# EAGLE library part IT8951 (library IT8951E-64DX)
Controlador de alto rendimiento y bajo costo para EPDs (Electronic Paper Displays) con soporte para VCOM AC/DC. Integra funciones como auto-display al arranque, alpha blending y picture-in-picture para reducir la carga del host. Compatible con resoluciones flexibles hasta 2048×2048 y equipado con 32/64 Mb de SDRAM interna. Interfaces disponibles: SPI, I²C, USB, Intel 80 y Motorola 68. Ideal para aplicaciones embebidas con pantallas e-paper monocromáticas o en escala de grises
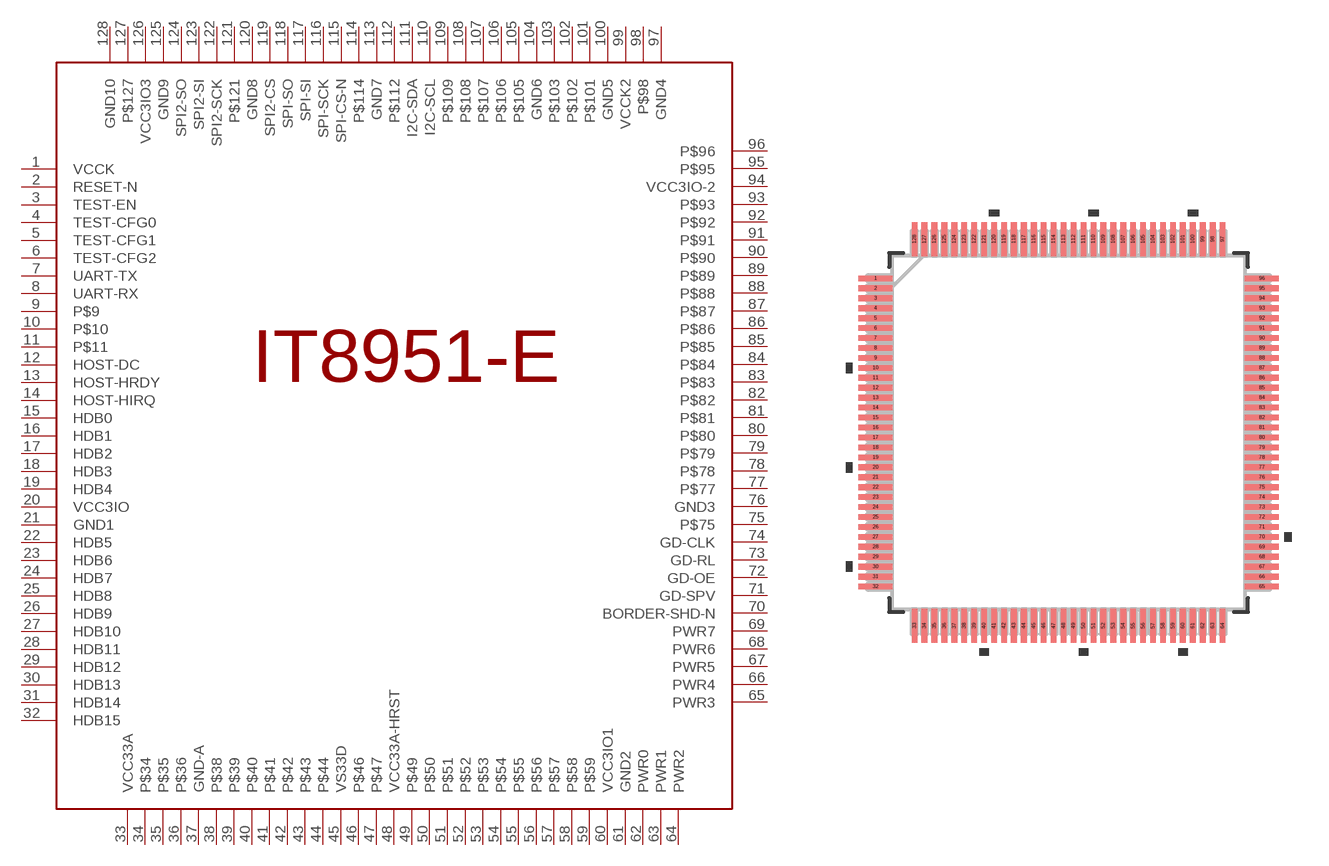
[diagram p0: symbol with the pads of LQFP128_STM; footprint LQFP128_STM]

Designator prefix -

## IT8951  [LQFP128_STM]
1  VCCK
2  RESET-N
3  TEST-EN
4  TEST-CFG0
5  TEST-CFG1
6  TEST-CFG2
7  UART-TX
8  UART-RX
9  P$9
10  P$10
11  P$11
12  HOST-DC
13  HOST-HRDY
14  HOST-HIRQ
15  HDB0
16  HDB1
17  HDB2
18  HDB3
19  HDB4
20  VCC3IO
21  GND1
22  HDB5
23  HDB6
24  HDB7
25  HDB8
26  HDB9
27  HDB10
28  HDB11
29  HDB12
30  HDB13
31  HDB14
32  HDB15
33  VCC33A
34  P$34
35  P$35
36  P$36
37  GND-A
38  P$38
39  P$39
40  P$40
41  P$41
42  P$42
43  P$43
44  P$44
45  VS33D
46  P$46
47  P$47
48  VCC33A-HRST
49  P$49
50  P$50
51  P$51
52  P$52
53  P$53
54  P$54
55  P$55
56  P$56
57  P$57
58  P$58
59  P$59
60  VCC3IO1
61  GND2
62  PWR0
63  PWR1
64  PWR2
65  PWR3
66  PWR4
67  PWR5
68  PWR6
69  PWR7
70  BORDER-SHD-N
71  GD-SPV
72  GD-OE
73  GD-RL
74  GD-CLK
75  P$75
76  GND3
77  P$77
78  P$78
79  P$79
80  P$80
81  P$81
82  P$82
83  P$83
84  P$84
85  P$85
86  P$86
87  P$87
88  P$88
89  P$89
90  P$90
91  P$91
92  P$92
93  P$93
94  VCC3IO-2
95  P$95
96  P$96
97  GND4
98  P$98
99  VCCK2
100  GND5
101  P$101
102  P$102
103  P$103
104  GND6
105  P$105
106  P$106
107  P$107
108  P$108
109  P$109
110  I2C-SCL
111  I2C-SDA
112  P$112
113  GND7
114  P$114
115  SPI-CS-N
116  SPI-SCK
117  SPI-SI
118  SPI-SO
119  SPI2-CS
120  GND8
121  P$121
122  SPI2-SCK
123  SPI2-SI
124  SPI2-SO
125  GND9
126  VCC3IO3
127  P$127
128  GND10

## Footprint LQFP128_STM (pad centres in mm)
smd 1.353 x 0.229: 1 -7.776,6.2; 2 -7.776,5.8; 3 -7.776,5.4; 4 -7.776,5; 5 -7.776,4.6; 6 -7.776,4.2; 7 -7.776,3.8; 8 -7.776,3.4; 9 -7.776,3; 10 -7.776,2.6; 11 -7.776,2.2; 12 -7.776,1.8; 13 -7.776,1.4; 14 -7.776,1; 15 -7.776,0.6; 16 -7.776,0.2; 17 -7.776,-0.2; 18 -7.776,-0.6; 19 -7.776,-1; 20 -7.776,-1.4; 21 -7.776,-1.8; 22 -7.776,-2.2; 23 -7.776,-2.6; 24 -7.776,-3; 25 -7.776,-3.4; 26 -7.776,-3.8; 27 -7.776,-4.2; 28 -7.776,-4.6; 29 -7.776,-5; 30 -7.776,-5.4; 31 -7.776,-5.8; 32 -7.776,-6.2; 65 7.776,-6.2; 66 7.776,-5.8; 67 7.776,-5.4; 68 7.776,-5; 69 7.776,-4.6; 70 7.776,-4.2; 71 7.776,-3.8; 72 7.776,-3.4; 73 7.776,-3; 74 7.776,-2.6; 75 7.776,-2.2; 76 7.776,-1.8; 77 7.776,-1.4; 78 7.776,-1; 79 7.776,-0.6; 80 7.776,-0.2; 81 7.776,0.2; 82 7.776,0.6; 83 7.776,1; 84 7.776,1.4; 85 7.776,1.8; 86 7.776,2.2; 87 7.776,2.6; 88 7.776,3; 89 7.776,3.4; 90 7.776,3.8; 91 7.776,4.2; 92 7.776,4.6; 93 7.776,5; 94 7.776,5.4; 95 7.776,5.8; 96 7.776,6.2
smd 0.229 x 1.353: 33 -6.2,-7.776; 34 -5.8,-7.776; 35 -5.4,-7.776; 36 -5,-7.776; 37 -4.6,-7.776; 38 -4.2,-7.776; 39 -3.8,-7.776; 40 -3.4,-7.776; 41 -3,-7.776; 42 -2.6,-7.776; 43 -2.2,-7.776; 44 -1.8,-7.776; 45 -1.4,-7.776; 46 -1,-7.776; 47 -0.6,-7.776; 48 -0.2,-7.776; 49 0.2,-7.776; 50 0.6,-7.776; 51 1,-7.776; 52 1.4,-7.776; 53 1.8,-7.776; 54 2.2,-7.776; 55 2.6,-7.776; 56 3,-7.776; 57 3.4,-7.776; 58 3.8,-7.776; 59 4.2,-7.776; 60 4.6,-7.776; 61 5,-7.776; 62 5.4,-7.776; 63 5.8,-7.776; 64 6.2,-7.776; 97 6.2,7.776; 98 5.8,7.776; 99 5.4,7.776; 100 5,7.776; 101 4.6,7.776; 102 4.2,7.776; 103 3.8,7.776; 104 3.4,7.776; 105 3,7.776; 106 2.6,7.776; 107 2.2,7.776; 108 1.8,7.776; 109 1.4,7.776; 110 1,7.776; 111 0.6,7.776; 112 0.2,7.776; 113 -0.2,7.776; 114 -0.6,7.776; 115 -1,7.776; 116 -1.4,7.776; 117 -1.8,7.776; 118 -2.2,7.776; 119 -2.6,7.776; 120 -3,7.776; 121 -3.4,7.776; 122 -3.8,7.776; 123 -4.2,7.776; 124 -4.6,7.776; 125 -5,7.776; 126 -5.4,7.776; 127 -5.8,7.776; 128 -6.2,7.776